# EAGLE library part LM73 (library boomerang)
National Semiconductor Digital I2C temperature sensor.
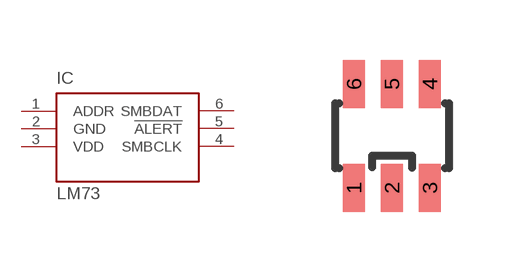
[diagram p2: symbol with the pads of SOT23-6; footprint SOT23-6]

Designator prefix IC

## LM73  [SOT23-6]
1  ADDR
2  GND
3  VDD
4  SMBCLK
5  !ALERT
6  SMBDAT

## Footprint SOT23-6 (pad centres in mm)
Small Outline Transistor
smd 0.55 x 1.2: 1 -0.95,-1.3; 2 0,-1.3; 3 0.95,-1.3; 4 0.95,1.3; 5 0,1.3; 6 -0.95,1.3